# Altium footprint library Jump_header.PcbLib: 54 footprints (part 2 of 4)
Each footprint in its own frame and in the unit in brackets; x right, y up, seen from the top. Pads: shape width x height; smd on the part's side, far side on the other; paste and mask are expansions set on the pad; w line width, h text height; cw(c..) or ccw(c..) is an arc to the next point about the centre after c.
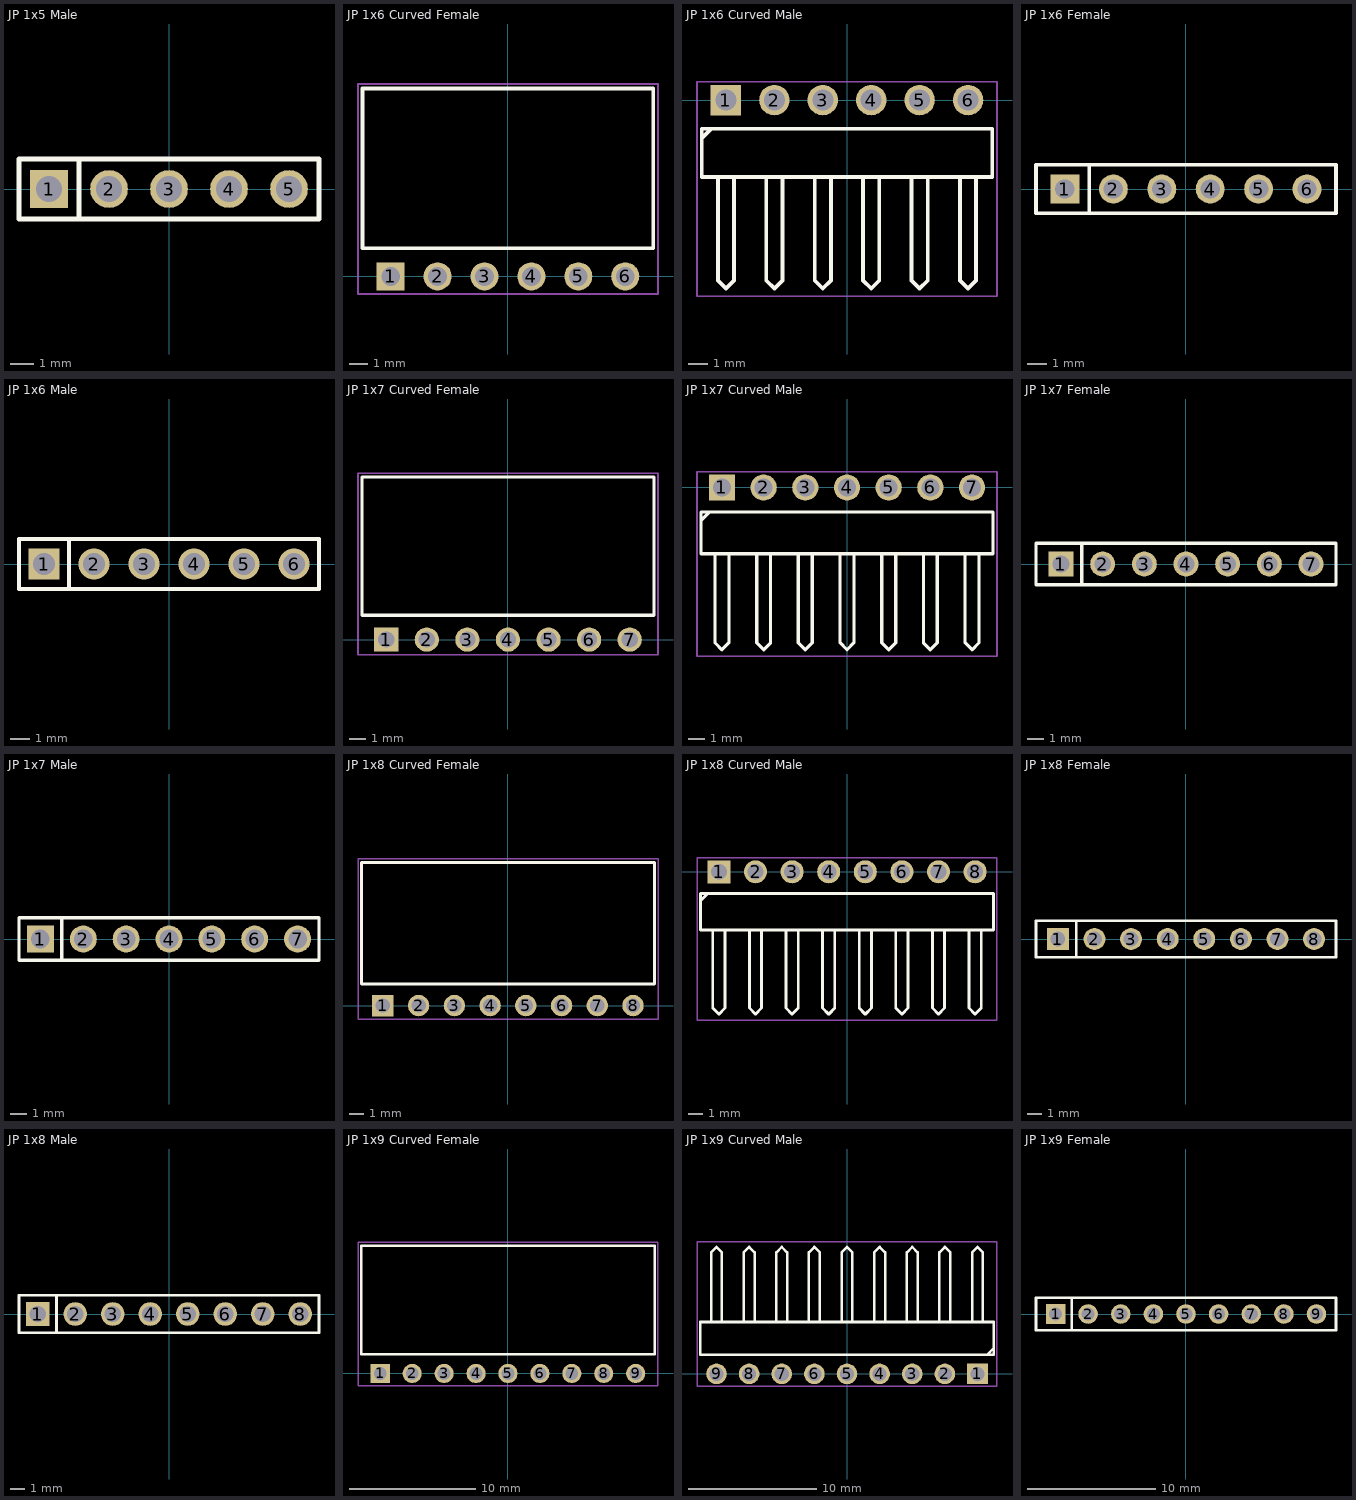
[diagram p1: the footprints below, top view; thin cyan lines are the x and y axes]

## JP 1x5 Male [mm]
pads (5):
  rect 1.6x1.6 hole 1.1: 1(-5.08,0)
  round 1.6 hole 1.1: 2(-2.54,0) 3(0,0) 4(2.54,0) 5(5.08,0)
Top Overlay:
  lines w0.2: -3.81,-1.27 -3.81,1.27 ; -6.35,-1.27 -6.35,1.27 6.35,1.27 6.35,-1.27 -6.35,-1.27
3D body "61300511121.stp": height 8.54, standoff -3, extent -6.35,-1.27 6.35,1.27

## JP 1x6 Curved Female [mm]
pads (6):
  rect 1.52x1.52 hole 1.02: 1(-6.35,0)
  round 1.52 hole 1.02: 2(-3.81,0) 3(-1.27,0) 4(1.27,0) 5(3.81,0) 6(6.35,0)
Top Overlay:
  lines w0.2: -7.874,1.524 -7.874,10.173 7.874,10.173 7.874,1.524 -7.874,1.524
Mechanical 15:
  lines w0.1: -8.12,-0.96 8.124,-0.96 8.124,10.423 -8.12,10.423 -8.12,-0.96
3D body "613006143121.stp": height 2.51, standoff -3.08, extent -7.87,-0.208 7.87,10.092

## JP 1x6 Curved Male [mm]
pads (6):
  rect 1.6x1.6 hole 1.1: 1(-6.35,0)
  round 1.6 hole 1.1: 2(-3.81,0) 3(-1.27,0) 4(1.27,0) 5(3.81,0) 6(6.35,0)
Top Overlay:
  lines w0.2: -7.578,-1.966 -7.154,-1.542 ; -6.773,-4.065 -6.773,-9.459 -6.35,-9.882 -5.927,-9.459 -5.927,-4.04 ; -4.233,-4.065 -4.233,-9.459 -3.81,-9.882 -3.387,-9.459 -3.387,-4.065 ; -1.693,-4.065 -1.693,-9.459 -1.27,-9.882 -0.847,-9.459 -0.847,-4.04 ; 0.847,-4.065 0.847,-9.459 1.27,-9.882 1.693,-9.459 1.693,-4.065 ; 3.387,-4.065 3.387,-9.459 3.81,-9.882 4.233,-9.459 4.233,-4.04 ; 5.927,-4.065 5.927,-9.459 6.35,-9.882 6.773,-9.459 6.773,-4.065 ; -7.62,-4.04 7.62,-4.04 7.62,-1.5 -7.62,-1.5 -7.62,-4.04
Mechanical 15:
  lines w0.1: -7.87,-10.29 -7.87,0.96 7.87,0.96 7.87,-10.29 -7.87,-10.29
3D body "61300611021.stp": height 2.54, standoff -3, extent -7.62,-10.064 7.62,0.296

## JP 1x6 Female [mm]
pads (6):
  rect 1.52x1.52 hole 1.02: 1(-6.35,0)
  round 1.52 hole 1.02: 2(-3.81,0) 3(-1.27,0) 4(1.27,0) 5(3.81,0) 6(6.35,0)
Top Overlay:
  lines w0.2: -5.08,-1.27 -5.08,1.27 ; -7.87,-1.27 7.87,-1.27 7.87,1.27 -7.87,1.27 -7.87,-1.27
3D body "61300611821.stp": height 8.51, standoff -3.09, extent -7.87,-1.25 7.87,1.25

## JP 1x6 Male [mm]
pads (6):
  rect 1.6x1.6 hole 1.1: 1(-6.35,0)
  round 1.6 hole 1.1: 2(-3.81,0) 3(-1.27,0) 4(1.27,0) 5(3.81,0) 6(6.35,0)
Top Overlay:
  lines w0.2: -5.08,-1.27 -5.08,1.27 ; -7.62,-1.27 7.62,-1.27 7.62,1.27 -7.62,1.27 -7.62,-1.27
3D body "61300611121.stp": height 8.54, standoff -3, extent -7.62,-1.27 7.62,1.27

## JP 1x7 Curved Female [mm]
pads (7):
  rect 1.52x1.52 hole 1.02: 1(-7.62,0)
  round 1.52 hole 1.02: 2(-5.08,0) 3(-2.54,0) 4(0,0) 5(2.54,0) 6(5.08,0) 7(7.62,0)
Top Overlay:
  lines w0.2: -9.144,1.524 -9.144,10.173 9.144,10.173 9.144,1.524 -9.144,1.524
Mechanical 15:
  lines w0.1: -9.39,-0.96 -9.39,10.423 9.394,10.423 9.394,-0.96 -9.39,-0.96
3D body "613007143121.stp": height 2.51, standoff -3.08, extent -9.14,-0.254 9.14,10.046

## JP 1x7 Curved Male [mm]
pads (7):
  rect 1.6x1.6 hole 1.1: 1(-7.62,0)
  round 1.6 hole 1.1: 2(-5.08,0) 3(-2.54,0) 4(0,0) 5(2.54,0) 6(5.08,0) 7(7.62,0)
Top Overlay:
  lines w0.2: -8.848,-1.966 -8.424,-1.542 ; -8.043,-4.065 -8.043,-9.459 -7.62,-9.882 -7.197,-9.459 -7.197,-4.04 ; -5.503,-4.065 -5.503,-9.459 -5.08,-9.882 -4.657,-9.459 -4.657,-4.065 ; -2.963,-4.065 -2.963,-9.459 -2.54,-9.882 -2.117,-9.459 -2.117,-4.04 ; -0.423,-4.065 -0.423,-9.459 0,-9.882 0.423,-9.459 0.423,-4.065 ; 2.117,-4.065 2.117,-9.459 2.54,-9.882 2.963,-9.459 2.963,-4.04 ; 4.657,-4.065 4.657,-9.459 5.08,-9.882 5.503,-9.459 5.503,-4.065 ; 7.197,-4.065 7.197,-9.459 7.62,-9.882 8.043,-9.459 8.043,-4.04 ; -8.89,-4.04 -8.89,-1.5 8.89,-1.5 8.89,-4.04 -8.89,-4.04
Mechanical 15:
  lines w0.1: -9.14,-10.29 9.14,-10.29 9.14,0.96 -9.14,0.96 -9.14,-10.29
3D body "61300711021.stp": height 2.55, standoff -2.99, extent -8.89,-10.064 8.89,0.296

## JP 1x7 Female [mm]
pads (7):
  rect 1.52x1.52 hole 1.02: 1(-7.62,0)
  round 1.52 hole 1.02: 2(-5.08,0) 3(-2.54,0) 4(0,0) 5(2.54,0) 6(5.08,0) 7(7.62,0)
Top Overlay:
  lines w0.2: -6.35,-1.27 -6.35,1.27 ; -9.14,-1.27 9.14,-1.27 9.14,1.27 -9.14,1.27 -9.14,-1.27
3D body "61300711821.stp": height 8.51, standoff -3.09, extent -9.14,-1.25 9.14,1.25

## JP 1x7 Male [mm]
pads (7):
  rect 1.6x1.6 hole 1.1: 1(-7.62,0)
  round 1.6 hole 1.1: 2(-5.08,0) 3(-2.54,0) 4(0,0) 5(2.54,0) 6(5.08,0) 7(7.62,0)
Top Overlay:
  lines w0.2: -6.35,-1.27 -6.35,1.27 ; -8.89,-1.27 8.89,-1.27 8.89,1.27 -8.89,1.27 -8.89,-1.27
3D body "61300711121.stp": height 8.54, standoff -3, extent -8.89,-1.27 8.89,1.27

## JP 1x8 Curved Female [mm]
pads (8):
  rect 1.52x1.52 hole 1.02: 1(-8.89,0)
  round 1.52 hole 1.02: 2(-6.35,0) 3(-3.81,0) 4(-1.27,0) 5(1.27,0) 6(3.81,0) 7(6.35,0) 8(8.89,0)
Top Overlay:
  lines w0.2: -10.414,1.524 -10.414,10.173 10.414,10.173 10.414,1.524 -10.414,1.524
Mechanical 15:
  lines w0.1: -10.66,-0.96 -10.66,10.423 10.664,10.423 10.664,-0.96 -10.66,-0.96
3D body "613008143121.stp": height 2.51, standoff -3.08, extent -10.41,-0.254 10.41,10.046

## JP 1x8 Curved Male [mm]
pads (8):
  rect 1.6x1.6 hole 1.1: 1(-8.89,0)
  round 1.6 hole 1.1: 2(-6.35,0) 3(-3.81,0) 4(-1.27,0) 5(1.27,0) 6(3.81,0) 7(6.35,0) 8(8.89,0)
Top Overlay:
  lines w0.2: -10.118,-1.966 -9.694,-1.542 ; -9.313,-4.065 -9.313,-9.459 -8.89,-9.882 -8.467,-9.459 -8.467,-4.04 ; -6.773,-4.065 -6.773,-9.459 -6.35,-9.882 -5.927,-9.459 -5.927,-4.065 ; -4.233,-4.065 -4.233,-9.459 -3.81,-9.882 -3.387,-9.459 -3.387,-4.04 ; -1.693,-4.065 -1.693,-9.459 -1.27,-9.882 -0.847,-9.459 -0.847,-4.065 ; 0.847,-4.065 0.847,-9.459 1.27,-9.882 1.693,-9.459 1.693,-4.04 ; 3.387,-4.065 3.387,-9.459 3.81,-9.882 4.233,-9.459 4.233,-4.065 ; 5.927,-4.065 5.927,-9.459 6.35,-9.882 6.773,-9.459 6.773,-4.04 ; 8.467,-4.065 8.467,-9.459 8.89,-9.882 9.313,-9.459 9.313,-4.065 ; -10.16,-4.04 -10.16,-1.5 10.16,-1.5 10.16,-4.04 -10.16,-4.04
Mechanical 15:
  lines w0.1: -10.41,-10.29 -10.41,0.96 10.41,0.96 10.41,-10.29 -10.41,-10.29
3D body "61300811021.stp": height 2.55, standoff -2.99, extent -10.16,-10.064 10.16,0.296

## JP 1x8 Female [mm]
pads (8):
  rect 1.52x1.52 hole 1.02: 1(-8.89,0)
  round 1.52 hole 1.02: 2(-6.35,0) 3(-3.81,0) 4(-1.27,0) 5(1.27,0) 6(3.81,0) 7(6.35,0) 8(8.89,0)
Top Overlay:
  lines w0.2: -7.62,-1.27 -7.62,1.27 ; -10.41,-1.27 10.41,-1.27 10.41,1.27 -10.41,1.27 -10.41,-1.27
3D body "61300811821.stp": height 8.51, standoff -3.09, extent -10.41,-1.25 10.41,1.25

## JP 1x8 Male [mm]
pads (8):
  rect 1.6x1.6 hole 1.1: 1(-8.89,0)
  round 1.6 hole 1.1: 2(-6.35,0) 3(-3.81,0) 4(-1.27,0) 5(1.27,0) 6(3.81,0) 7(6.35,0) 8(8.89,0)
Top Overlay:
  lines w0.2: -7.62,-1.27 -7.62,1.27 ; -10.16,-1.27 10.16,-1.27 10.16,1.27 -10.16,1.27 -10.16,-1.27
3D body "61300811121.stp": height 8.54, standoff -3, extent -10.16,-1.27 10.16,1.27

## JP 1x9 Curved Female [mm]
pads (9):
  rect 1.52x1.52 hole 1.02: 1(-10.16,0)
  round 1.52 hole 1.02: 2(-7.62,0) 3(-5.08,0) 4(-2.54,0) 5(0,0) 6(2.54,0) 7(5.08,0) 8(7.62,0) 9(10.16,0)
Top Overlay:
  lines w0.2: -11.684,1.524 -11.684,10.173 11.684,10.173 11.684,1.524 -11.684,1.524
Mechanical 15:
  lines w0.1: -11.93,-0.96 11.934,-0.96 11.934,10.423 -11.93,10.423 -11.93,-0.96
3D body "613009143121.stp": height 2.51, standoff -3.08, extent -11.68,-0.208 11.68,10.092

## JP 1x9 Curved Male [mm]
pads (9):
  rect 1.6x1.6 hole 1.1: 1(10.16,0)
  round 1.6 hole 1.1: 2(7.62,0) 3(5.08,0) 4(2.54,0) 5(0,0) 6(-2.54,0) 7(-5.08,0) 8(-7.62,0) 9(-10.16,0)
Top Overlay:
  lines w0.2: -10.583,4.04 -10.583,9.459 -10.16,9.882 -9.737,9.459 -9.737,4.065 ; -8.043,4.065 -8.043,9.459 -7.62,9.882 -7.197,9.459 -7.197,4.065 ; -5.503,4.04 -5.503,9.459 -5.08,9.882 -4.657,9.459 -4.657,4.065 ; -2.963,4.065 -2.963,9.459 -2.54,9.882 -2.117,9.459 -2.117,4.065 ; -0.423,4.04 -0.423,9.459 0,9.882 0.423,9.459 0.423,4.065 ; 2.117,4.065 2.117,9.459 2.54,9.882 2.963,9.459 2.963,4.065 ; 4.657,4.04 4.657,9.459 5.08,9.882 5.503,9.459 5.503,4.065 ; 7.197,4.065 7.197,9.459 7.62,9.882 8.043,9.459 8.043,4.065 ; 9.737,4.04 9.737,9.459 10.16,9.882 10.583,9.459 10.583,4.065 ; 10.964,1.542 11.388,1.966 ; -11.43,1.5 11.43,1.5 11.43,4.04 -11.43,4.04 -11.43,1.5
Mechanical 15:
  lines w0.1: -11.68,-0.96 11.68,-0.96 11.68,10.29 -11.68,10.29 -11.68,-0.96
3D body "61300911021.stp": height 2.55, standoff -2.99, extent -11.43,-0.296 11.43,10.064

## JP 1x9 Female [mm]
pads (9):
  rect 1.52x1.52 hole 1.02: 1(-10.16,0)
  round 1.52 hole 1.02: 2(-7.62,0) 3(-5.08,0) 4(-2.54,0) 5(0,0) 6(2.54,0) 7(5.08,0) 8(7.62,0) 9(10.16,0)
Top Overlay:
  lines w0.2: -8.89,-1.27 -8.89,1.27 ; -11.68,-1.27 11.68,-1.27 11.68,1.27 -11.68,1.27 -11.68,-1.27
3D body "61300911821.stp": height 8.51, standoff -3.09, extent -11.68,-1.25 11.68,1.25